# Altium integrated library ISSI SRAM Asynchronous SRAM 5V High-Speed.IntLib: 100 symbols (part 4 of 5)
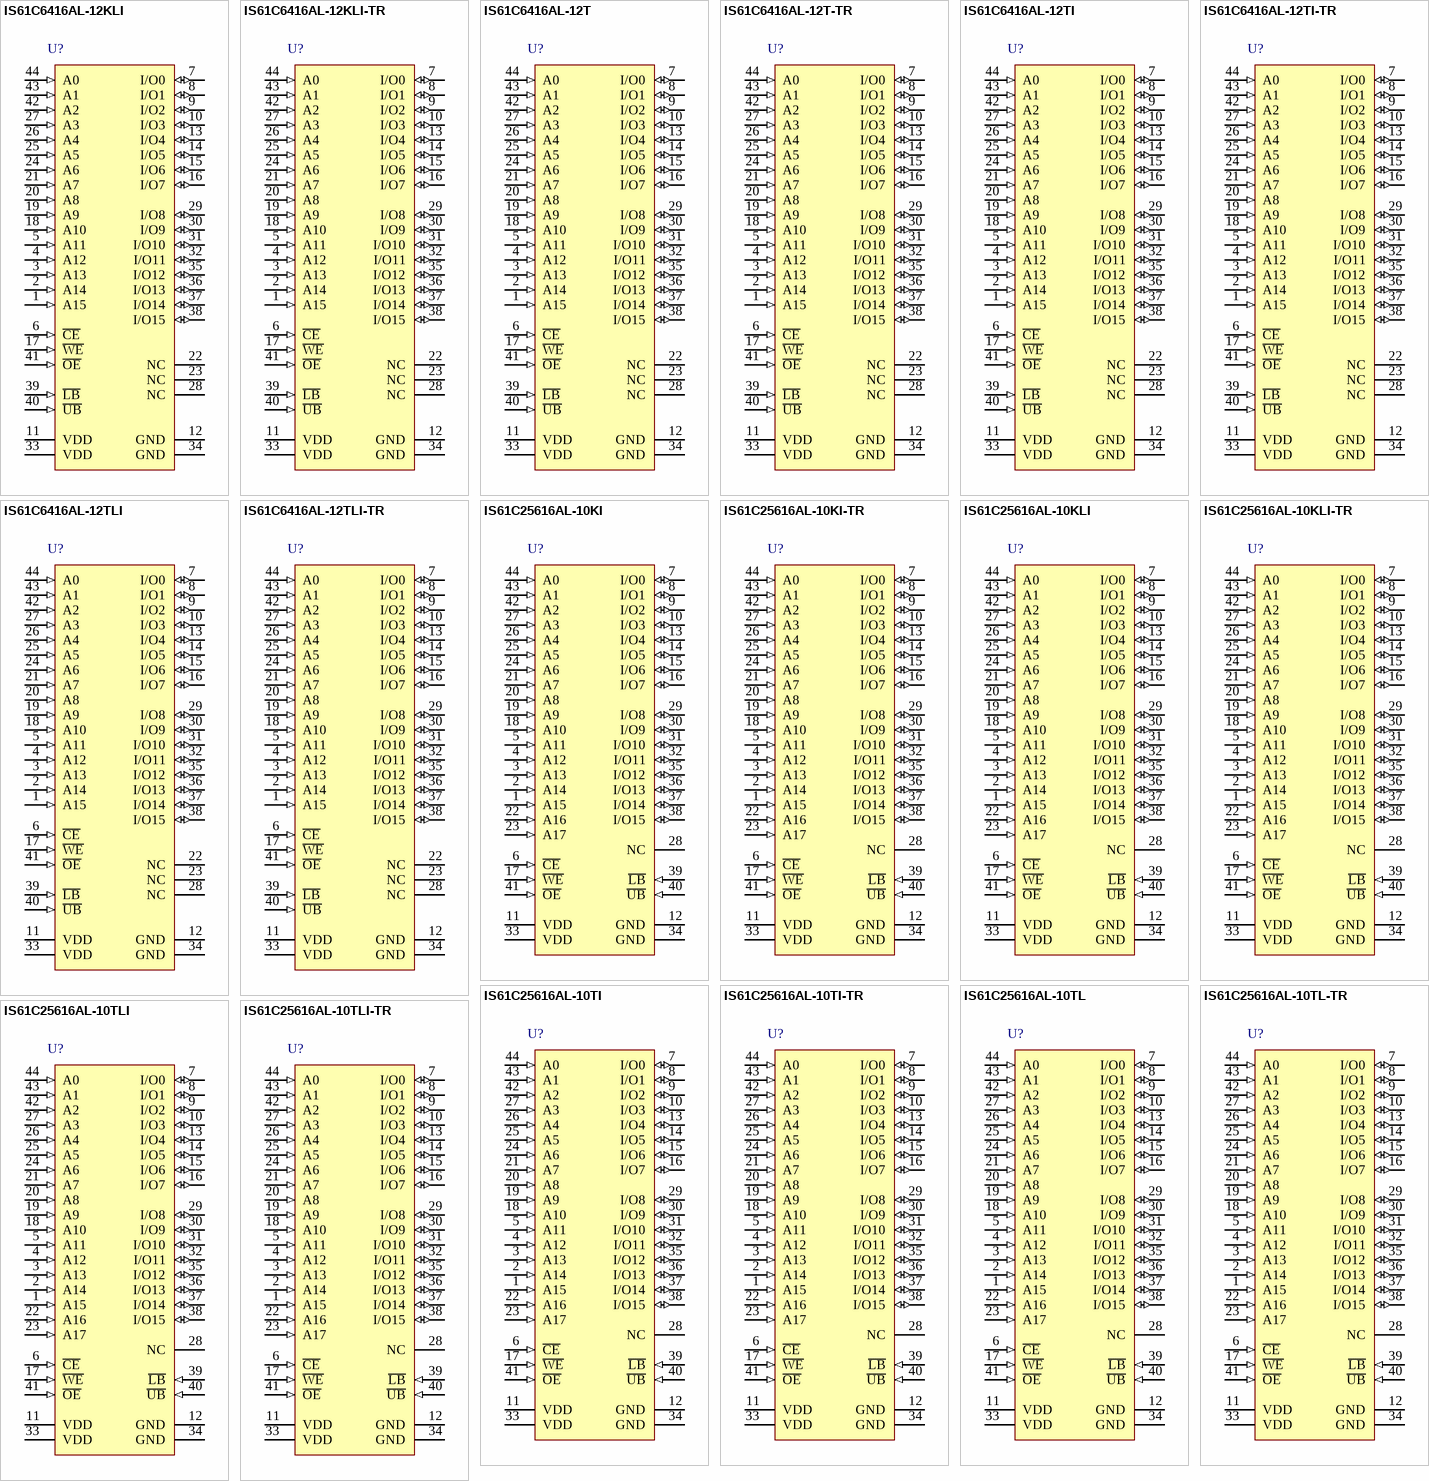
[diagram p8: symbols IS61C6416AL-12KLI to IS61C25616AL-10TLI-TR]

## IS61C6416AL-12KLI
designator U?
1 M High Speed CMOS SRAM, 64 K x 16, -40 to 85 degC, 44-Pin SOJ (SOJ-44), Pb-Free; Manufacturer: Integrated Silicon Solution Inc (ISSI); PartNumber: IS61C6416AL-12KLI; Density: 1M; Organization: 64K x 16; Packing: Tray / Tube; Speed (ns): 12; DatasheetVersion: Rev. B; PackageVersion: Rev. E, 12/2007; PackageReference: SOJ-44; PackageDescription: 44-Pin 400 mil SOJ, Body 28.58 x 10.16 mm, Pitch 1.27 mm; Supplier 1: Digi-Key; Supplier Part Number 1: 706-1088-5-ND; Supplier 2: Newark; Supplier Part Number 2: 43M5053; Supplier 3: Mouser; Supplier Part Number 3: 870IS61C6416AL12KLI; RoHS: Pb-Free; Mounting Technology: Surface Mount; Code_JEDEC: MS-027; ComponentLink1Description: Manufacturer URL; ComponentLink1URL: http://www.issi.com/US/index.shtml; ComponentLink2Description: Datasheet; ComponentLink2URL: http://www.issi.com/WW/pdf/61C6416AL.pdf; ComponentLink3Description: Package Specification; ComponentLink3URL: http://www.issi.com/WW/pdf/61-64WV25616.pdf
footprint ISSI-SOJ-44_N (SOJ, 44-Leads, Body 28.7x10.29mm, Pitch 1.27mm, IPC Medium Density)
pins: 1 A15 (in) "Address Input", 2 A14 (in) "Address Input", 3 A13 (in) "Address Input", 4 A12 (in) "Address Input", 5 A11 (in) "Address Input", 6 ~{CE} (in) "Chip Enable Input", 7 I/O0 (io) "Data Input/Output", 8 I/O1 (io) "Data Input/Output", 9 I/O2 (io) "Data Input/Output", 10 I/O3 (io) "Data Input/Output", 11 VDD (power) "Power", 12 GND (power) "Ground", 13 I/O4 (io) "Data Input/Output", 14 I/O5 (io) "Data Input/Output", 15 I/O6 (io) "Data Input/Output", 16 I/O7 (io) "Data Input/Output", 17 ~{WE} (in) "Write Enable Input", 18 A10 (in) "Address Input", 19 A9 (in) "Address Input", 20 A8 (in) "Address Input", 21 A7 (in) "Address Input", 22 NC "No Connection", 23 NC "No Connection", 24 A6 (in) "Address Input", 25 A5 (in) "Address Input", 26 A4 (in) "Address Input", 27 A3 (in) "Address Input", 28 NC "No Connection", 29 I/O8 (io) "Data Input/Output", 30 I/O9 (io) "Data Input/Output", 31 I/O10 (io) "Data Input/Output", 32 I/O11 (io) "Data Input/Output", 33 VDD (power) "Power", 34 GND (power) "Ground", 35 I/O12 (io) "Data Input/Output", 36 I/O13 (io) "Data Input/Output", 37 I/O14 (io) "Data Input/Output", 38 I/O15 (io) "Data Input/Output", 39 ~{LB} (in) "Lower-byte Control (I/O0-I/O7)", 40 ~{UB} (in) "Upper-byte Control (I/O8-I/O15)", 41 ~{OE} (in) "Output Enable Input", 42 A2 (in) "Address Input", 43 A1 (in) "Address Input", 44 A0 (in) "Address Input"

## IS61C6416AL-12KLI-TR
designator U?
1 M High Speed CMOS SRAM, 64 K x 16, -40 to 85 degC, 44-Pin SOJ (SOJ-44), Pb-Free; Manufacturer: Integrated Silicon Solution Inc (ISSI); PartNumber: IS61C6416AL-12KLI-TR; Density: 1M; Organization: 64K x 16; Packing: Tape & Reel; Speed (ns): 12; DatasheetVersion: Rev. B; PackageVersion: Rev. E, 12/2007; PackageReference: SOJ-44; PackageDescription: 44-Pin 400 mil SOJ, Body 28.58 x 10.16 mm, Pitch 1.27 mm; Supplier 1: Digi-Key; Supplier Part Number 1: IS61C6416AL-12KLI-TR-ND; Supplier 2: Mouser; Supplier Part Number 2: 870IS61C6416AL12KLIT; RoHS: Pb-Free; Mounting Technology: Surface Mount; Code_JEDEC: MS-027; ComponentLink1Description: Manufacturer URL; ComponentLink1URL: http://www.issi.com/US/index.shtml; ComponentLink2Description: Datasheet; ComponentLink2URL: http://www.issi.com/WW/pdf/61C6416AL.pdf; ComponentLink3Description: Package Specification; ComponentLink3URL: http://www.issi.com/WW/pdf/61-64WV25616.pdf
footprint ISSI-SOJ-44_N (SOJ, 44-Leads, Body 28.7x10.29mm, Pitch 1.27mm, IPC Medium Density)
pins: 1 A15 (in) "Address Input", 2 A14 (in) "Address Input", 3 A13 (in) "Address Input", 4 A12 (in) "Address Input", 5 A11 (in) "Address Input", 6 ~{CE} (in) "Chip Enable Input", 7 I/O0 (io) "Data Input/Output", 8 I/O1 (io) "Data Input/Output", 9 I/O2 (io) "Data Input/Output", 10 I/O3 (io) "Data Input/Output", 11 VDD (power) "Power", 12 GND (power) "Ground", 13 I/O4 (io) "Data Input/Output", 14 I/O5 (io) "Data Input/Output", 15 I/O6 (io) "Data Input/Output", 16 I/O7 (io) "Data Input/Output", 17 ~{WE} (in) "Write Enable Input", 18 A10 (in) "Address Input", 19 A9 (in) "Address Input", 20 A8 (in) "Address Input", 21 A7 (in) "Address Input", 22 NC "No Connection", 23 NC "No Connection", 24 A6 (in) "Address Input", 25 A5 (in) "Address Input", 26 A4 (in) "Address Input", 27 A3 (in) "Address Input", 28 NC "No Connection", 29 I/O8 (io) "Data Input/Output", 30 I/O9 (io) "Data Input/Output", 31 I/O10 (io) "Data Input/Output", 32 I/O11 (io) "Data Input/Output", 33 VDD (power) "Power", 34 GND (power) "Ground", 35 I/O12 (io) "Data Input/Output", 36 I/O13 (io) "Data Input/Output", 37 I/O14 (io) "Data Input/Output", 38 I/O15 (io) "Data Input/Output", 39 ~{LB} (in) "Lower-byte Control (I/O0-I/O7)", 40 ~{UB} (in) "Upper-byte Control (I/O8-I/O15)", 41 ~{OE} (in) "Output Enable Input", 42 A2 (in) "Address Input", 43 A1 (in) "Address Input", 44 A0 (in) "Address Input"

## IS61C6416AL-12T
designator U?
1 M High Speed CMOS SRAM, 64 K x 16, 0 to 70 degC, 44-Pin SOP (TSOP-2-44); Manufacturer: Integrated Silicon Solution Inc (ISSI); PartNumber: IS61C6416AL-12T; Density: 1M; Organization: 64K x 16; Packing: Tray / Tube; Speed (ns): 12; DatasheetVersion: Rev. B; PackageVersion: Rev. F, 06/2008; PackageReference: TSOP-2-44; PackageDescription: 44-Pin 400 mil TSOP-2, Body 18.41 x 10.16 mm, Pitch 0.8 mm; Mounting Technology: Surface Mount; ComponentLink1Description: Manufacturer URL; ComponentLink1URL: http://www.issi.com/US/index.shtml; ComponentLink2Description: Datasheet; ComponentLink2URL: http://www.issi.com/WW/pdf/61C6416AL.pdf; ComponentLink3Description: Package Specification; ComponentLink3URL: http://www.issi.com/WW/pdf/61-64WV6416EEBLL.pdf
footprint ISSI-TSOP-2-44_N (SOP, 44-Leads, Body 18.5x10.3mm, Pitch 0.8mm, IPC Medium Density)
pins: 1 A15 (in) "Address Input", 2 A14 (in) "Address Input", 3 A13 (in) "Address Input", 4 A12 (in) "Address Input", 5 A11 (in) "Address Input", 6 ~{CE} (in) "Chip Enable Input", 7 I/O0 (io) "Data Input/Output", 8 I/O1 (io) "Data Input/Output", 9 I/O2 (io) "Data Input/Output", 10 I/O3 (io) "Data Input/Output", 11 VDD (power) "Power", 12 GND (power) "Ground", 13 I/O4 (io) "Data Input/Output", 14 I/O5 (io) "Data Input/Output", 15 I/O6 (io) "Data Input/Output", 16 I/O7 (io) "Data Input/Output", 17 ~{WE} (in) "Write Enable Input", 18 A10 (in) "Address Input", 19 A9 (in) "Address Input", 20 A8 (in) "Address Input", 21 A7 (in) "Address Input", 22 NC "No Connection", 23 NC "No Connection", 24 A6 (in) "Address Input", 25 A5 (in) "Address Input", 26 A4 (in) "Address Input", 27 A3 (in) "Address Input", 28 NC "No Connection", 29 I/O8 (io) "Data Input/Output", 30 I/O9 (io) "Data Input/Output", 31 I/O10 (io) "Data Input/Output", 32 I/O11 (io) "Data Input/Output", 33 VDD (power) "Power", 34 GND (power) "Ground", 35 I/O12 (io) "Data Input/Output", 36 I/O13 (io) "Data Input/Output", 37 I/O14 (io) "Data Input/Output", 38 I/O15 (io) "Data Input/Output", 39 ~{LB} (in) "Lower-byte Control (I/O0-I/O7)", 40 ~{UB} (in) "Upper-byte Control (I/O8-I/O15)", 41 ~{OE} (in) "Output Enable Input", 42 A2 (in) "Address Input", 43 A1 (in) "Address Input", 44 A0 (in) "Address Input"

## IS61C6416AL-12T-TR
designator U?
1 M High Speed CMOS SRAM, 64 K x 16, 0 to 70 degC, 44-Pin SOP (TSOP-2-44); Manufacturer: Integrated Silicon Solution Inc (ISSI); PartNumber: IS61C6416AL-12T-TR; Density: 1M; Organization: 64K x 16; Packing: Tape & Reel; Speed (ns): 12; DatasheetVersion: Rev. B; PackageVersion: Rev. F, 06/2008; PackageReference: TSOP-2-44; PackageDescription: 44-Pin 400 mil TSOP-2, Body 18.41 x 10.16 mm, Pitch 0.8 mm; Mounting Technology: Surface Mount; ComponentLink1Description: Manufacturer URL; ComponentLink1URL: http://www.issi.com/US/index.shtml; ComponentLink2Description: Datasheet; ComponentLink2URL: http://www.issi.com/WW/pdf/61C6416AL.pdf; ComponentLink3Description: Package Specification; ComponentLink3URL: http://www.issi.com/WW/pdf/61-64WV6416EEBLL.pdf
footprint ISSI-TSOP-2-44_N (SOP, 44-Leads, Body 18.5x10.3mm, Pitch 0.8mm, IPC Medium Density)
pins: 1 A15 (in) "Address Input", 2 A14 (in) "Address Input", 3 A13 (in) "Address Input", 4 A12 (in) "Address Input", 5 A11 (in) "Address Input", 6 ~{CE} (in) "Chip Enable Input", 7 I/O0 (io) "Data Input/Output", 8 I/O1 (io) "Data Input/Output", 9 I/O2 (io) "Data Input/Output", 10 I/O3 (io) "Data Input/Output", 11 VDD (power) "Power", 12 GND (power) "Ground", 13 I/O4 (io) "Data Input/Output", 14 I/O5 (io) "Data Input/Output", 15 I/O6 (io) "Data Input/Output", 16 I/O7 (io) "Data Input/Output", 17 ~{WE} (in) "Write Enable Input", 18 A10 (in) "Address Input", 19 A9 (in) "Address Input", 20 A8 (in) "Address Input", 21 A7 (in) "Address Input", 22 NC "No Connection", 23 NC "No Connection", 24 A6 (in) "Address Input", 25 A5 (in) "Address Input", 26 A4 (in) "Address Input", 27 A3 (in) "Address Input", 28 NC "No Connection", 29 I/O8 (io) "Data Input/Output", 30 I/O9 (io) "Data Input/Output", 31 I/O10 (io) "Data Input/Output", 32 I/O11 (io) "Data Input/Output", 33 VDD (power) "Power", 34 GND (power) "Ground", 35 I/O12 (io) "Data Input/Output", 36 I/O13 (io) "Data Input/Output", 37 I/O14 (io) "Data Input/Output", 38 I/O15 (io) "Data Input/Output", 39 ~{LB} (in) "Lower-byte Control (I/O0-I/O7)", 40 ~{UB} (in) "Upper-byte Control (I/O8-I/O15)", 41 ~{OE} (in) "Output Enable Input", 42 A2 (in) "Address Input", 43 A1 (in) "Address Input", 44 A0 (in) "Address Input"

## IS61C6416AL-12TI
designator U?
1 M High Speed CMOS SRAM, 64 K x 16, -40 to 85 degC, 44-Pin SOP (TSOP-2-44); Manufacturer: Integrated Silicon Solution Inc (ISSI); PartNumber: IS61C6416AL-12TI; Density: 1M; Organization: 64K x 16; Packing: Tray / Tube; Speed (ns): 12; DatasheetVersion: Rev. B; PackageVersion: Rev. F, 06/2008; PackageReference: TSOP-2-44; PackageDescription: 44-Pin 400 mil TSOP-2, Body 18.41 x 10.16 mm, Pitch 0.8 mm; Supplier 1: Digi-Key; Supplier Part Number 1: IS61C6416AL-12TI-ND; Supplier 2: Mouser; Supplier Part Number 2: 870-IS61C6416AL-12TI; Mounting Technology: Surface Mount; ComponentLink1Description: Manufacturer URL; ComponentLink1URL: http://www.issi.com/US/index.shtml; ComponentLink2Description: Datasheet; ComponentLink2URL: http://www.issi.com/WW/pdf/61C6416AL.pdf; ComponentLink3Description: Package Specification; ComponentLink3URL: http://www.issi.com/WW/pdf/61-64WV6416EEBLL.pdf
footprint ISSI-TSOP-2-44_N (SOP, 44-Leads, Body 18.5x10.3mm, Pitch 0.8mm, IPC Medium Density)
pins: 1 A15 (in) "Address Input", 2 A14 (in) "Address Input", 3 A13 (in) "Address Input", 4 A12 (in) "Address Input", 5 A11 (in) "Address Input", 6 ~{CE} (in) "Chip Enable Input", 7 I/O0 (io) "Data Input/Output", 8 I/O1 (io) "Data Input/Output", 9 I/O2 (io) "Data Input/Output", 10 I/O3 (io) "Data Input/Output", 11 VDD (power) "Power", 12 GND (power) "Ground", 13 I/O4 (io) "Data Input/Output", 14 I/O5 (io) "Data Input/Output", 15 I/O6 (io) "Data Input/Output", 16 I/O7 (io) "Data Input/Output", 17 ~{WE} (in) "Write Enable Input", 18 A10 (in) "Address Input", 19 A9 (in) "Address Input", 20 A8 (in) "Address Input", 21 A7 (in) "Address Input", 22 NC "No Connection", 23 NC "No Connection", 24 A6 (in) "Address Input", 25 A5 (in) "Address Input", 26 A4 (in) "Address Input", 27 A3 (in) "Address Input", 28 NC "No Connection", 29 I/O8 (io) "Data Input/Output", 30 I/O9 (io) "Data Input/Output", 31 I/O10 (io) "Data Input/Output", 32 I/O11 (io) "Data Input/Output", 33 VDD (power) "Power", 34 GND (power) "Ground", 35 I/O12 (io) "Data Input/Output", 36 I/O13 (io) "Data Input/Output", 37 I/O14 (io) "Data Input/Output", 38 I/O15 (io) "Data Input/Output", 39 ~{LB} (in) "Lower-byte Control (I/O0-I/O7)", 40 ~{UB} (in) "Upper-byte Control (I/O8-I/O15)", 41 ~{OE} (in) "Output Enable Input", 42 A2 (in) "Address Input", 43 A1 (in) "Address Input", 44 A0 (in) "Address Input"

## IS61C6416AL-12TI-TR
designator U?
1 M High Speed CMOS SRAM, 64 K x 16, -40 to 85 degC, 44-Pin SOP (TSOP-2-44); Manufacturer: Integrated Silicon Solution Inc (ISSI); PartNumber: IS61C6416AL-12TI-TR; Density: 1M; Organization: 64K x 16; Packing: Tape & Reel; Speed (ns): 12; DatasheetVersion: Rev. B; PackageVersion: Rev. F, 06/2008; PackageReference: TSOP-2-44; PackageDescription: 44-Pin 400 mil TSOP-2, Body 18.41 x 10.16 mm, Pitch 0.8 mm; Supplier 1: Digi-Key; Supplier Part Number 1: IS61C6416AL-12TI-TR-ND; Supplier 2: Mouser; Supplier Part Number 2: 870IS61C6416AL12TITR; Mounting Technology: Surface Mount; ComponentLink1Description: Manufacturer URL; ComponentLink1URL: http://www.issi.com/US/index.shtml; ComponentLink2Description: Datasheet; ComponentLink2URL: http://www.issi.com/WW/pdf/61C6416AL.pdf; ComponentLink3Description: Package Specification; ComponentLink3URL: http://www.issi.com/WW/pdf/61-64WV6416EEBLL.pdf
footprint ISSI-TSOP-2-44_N (SOP, 44-Leads, Body 18.5x10.3mm, Pitch 0.8mm, IPC Medium Density)
pins: 1 A15 (in) "Address Input", 2 A14 (in) "Address Input", 3 A13 (in) "Address Input", 4 A12 (in) "Address Input", 5 A11 (in) "Address Input", 6 ~{CE} (in) "Chip Enable Input", 7 I/O0 (io) "Data Input/Output", 8 I/O1 (io) "Data Input/Output", 9 I/O2 (io) "Data Input/Output", 10 I/O3 (io) "Data Input/Output", 11 VDD (power) "Power", 12 GND (power) "Ground", 13 I/O4 (io) "Data Input/Output", 14 I/O5 (io) "Data Input/Output", 15 I/O6 (io) "Data Input/Output", 16 I/O7 (io) "Data Input/Output", 17 ~{WE} (in) "Write Enable Input", 18 A10 (in) "Address Input", 19 A9 (in) "Address Input", 20 A8 (in) "Address Input", 21 A7 (in) "Address Input", 22 NC "No Connection", 23 NC "No Connection", 24 A6 (in) "Address Input", 25 A5 (in) "Address Input", 26 A4 (in) "Address Input", 27 A3 (in) "Address Input", 28 NC "No Connection", 29 I/O8 (io) "Data Input/Output", 30 I/O9 (io) "Data Input/Output", 31 I/O10 (io) "Data Input/Output", 32 I/O11 (io) "Data Input/Output", 33 VDD (power) "Power", 34 GND (power) "Ground", 35 I/O12 (io) "Data Input/Output", 36 I/O13 (io) "Data Input/Output", 37 I/O14 (io) "Data Input/Output", 38 I/O15 (io) "Data Input/Output", 39 ~{LB} (in) "Lower-byte Control (I/O0-I/O7)", 40 ~{UB} (in) "Upper-byte Control (I/O8-I/O15)", 41 ~{OE} (in) "Output Enable Input", 42 A2 (in) "Address Input", 43 A1 (in) "Address Input", 44 A0 (in) "Address Input"

## IS61C6416AL-12TLI
designator U?
1 M High Speed CMOS SRAM, 64 K x 16, -40 to 85 degC, 44-Pin SOP (TSOP-2-44), Pb-Free; Manufacturer: Integrated Silicon Solution Inc (ISSI); PartNumber: IS61C6416AL-12TLI; Density: 1M; Organization: 64K x 16; Packing: Tray / Tube; Speed (ns): 12; DatasheetVersion: Rev. B; PackageVersion: Rev. F, 06/2008; PackageReference: TSOP-2-44; PackageDescription: 44-Pin 400 mil TSOP-2, Body 18.41 x 10.16 mm, Pitch 0.8 mm; Supplier 1: Digi-Key; Supplier Part Number 1: 706-1089-ND; Supplier 2: Newark; Supplier Part Number 2: 43M5057; Supplier 3: Mouser; Supplier Part Number 3: 870IS61C6416AL12TLI; RoHS: Pb-Free; Mounting Technology: Surface Mount; ComponentLink1Description: Manufacturer URL; ComponentLink1URL: http://www.issi.com/US/index.shtml; ComponentLink2Description: Datasheet; ComponentLink2URL: http://www.issi.com/WW/pdf/61C6416AL.pdf; ComponentLink3Description: Package Specification; ComponentLink3URL: http://www.issi.com/WW/pdf/61-64WV6416EEBLL.pdf
footprint ISSI-TSOP-2-44_N (SOP, 44-Leads, Body 18.5x10.3mm, Pitch 0.8mm, IPC Medium Density)
pins: 1 A15 (in) "Address Input", 2 A14 (in) "Address Input", 3 A13 (in) "Address Input", 4 A12 (in) "Address Input", 5 A11 (in) "Address Input", 6 ~{CE} (in) "Chip Enable Input", 7 I/O0 (io) "Data Input/Output", 8 I/O1 (io) "Data Input/Output", 9 I/O2 (io) "Data Input/Output", 10 I/O3 (io) "Data Input/Output", 11 VDD (power) "Power", 12 GND (power) "Ground", 13 I/O4 (io) "Data Input/Output", 14 I/O5 (io) "Data Input/Output", 15 I/O6 (io) "Data Input/Output", 16 I/O7 (io) "Data Input/Output", 17 ~{WE} (in) "Write Enable Input", 18 A10 (in) "Address Input", 19 A9 (in) "Address Input", 20 A8 (in) "Address Input", 21 A7 (in) "Address Input", 22 NC "No Connection", 23 NC "No Connection", 24 A6 (in) "Address Input", 25 A5 (in) "Address Input", 26 A4 (in) "Address Input", 27 A3 (in) "Address Input", 28 NC "No Connection", 29 I/O8 (io) "Data Input/Output", 30 I/O9 (io) "Data Input/Output", 31 I/O10 (io) "Data Input/Output", 32 I/O11 (io) "Data Input/Output", 33 VDD (power) "Power", 34 GND (power) "Ground", 35 I/O12 (io) "Data Input/Output", 36 I/O13 (io) "Data Input/Output", 37 I/O14 (io) "Data Input/Output", 38 I/O15 (io) "Data Input/Output", 39 ~{LB} (in) "Lower-byte Control (I/O0-I/O7)", 40 ~{UB} (in) "Upper-byte Control (I/O8-I/O15)", 41 ~{OE} (in) "Output Enable Input", 42 A2 (in) "Address Input", 43 A1 (in) "Address Input", 44 A0 (in) "Address Input"

## IS61C6416AL-12TLI-TR
designator U?
1 M High Speed CMOS SRAM, 64 K x 16, -40 to 85 degC, 44-Pin SOP (TSOP-2-44), Pb-Free; Manufacturer: Integrated Silicon Solution Inc (ISSI); PartNumber: IS61C6416AL-12TLI-TR; Density: 1M; Organization: 64K x 16; Packing: Tape & Reel; Speed (ns): 12; DatasheetVersion: Rev. B; PackageVersion: Rev. F, 06/2008; PackageReference: TSOP-2-44; PackageDescription: 44-Pin 400 mil TSOP-2, Body 18.41 x 10.16 mm, Pitch 0.8 mm; Supplier 1: Digi-Key; Supplier Part Number 1: IS61C6416AL-12TLI-TR-ND; Supplier 2: Mouser; Supplier Part Number 2: 870IS61C6416AL12TLIT; RoHS: Pb-Free; Mounting Technology: Surface Mount; ComponentLink1Description: Manufacturer URL; ComponentLink1URL: http://www.issi.com/US/index.shtml; ComponentLink2Description: Datasheet; ComponentLink2URL: http://www.issi.com/WW/pdf/61C6416AL.pdf; ComponentLink3Description: Package Specification; ComponentLink3URL: http://www.issi.com/WW/pdf/61-64WV6416EEBLL.pdf
footprint ISSI-TSOP-2-44_N (SOP, 44-Leads, Body 18.5x10.3mm, Pitch 0.8mm, IPC Medium Density)
pins: 1 A15 (in) "Address Input", 2 A14 (in) "Address Input", 3 A13 (in) "Address Input", 4 A12 (in) "Address Input", 5 A11 (in) "Address Input", 6 ~{CE} (in) "Chip Enable Input", 7 I/O0 (io) "Data Input/Output", 8 I/O1 (io) "Data Input/Output", 9 I/O2 (io) "Data Input/Output", 10 I/O3 (io) "Data Input/Output", 11 VDD (power) "Power", 12 GND (power) "Ground", 13 I/O4 (io) "Data Input/Output", 14 I/O5 (io) "Data Input/Output", 15 I/O6 (io) "Data Input/Output", 16 I/O7 (io) "Data Input/Output", 17 ~{WE} (in) "Write Enable Input", 18 A10 (in) "Address Input", 19 A9 (in) "Address Input", 20 A8 (in) "Address Input", 21 A7 (in) "Address Input", 22 NC "No Connection", 23 NC "No Connection", 24 A6 (in) "Address Input", 25 A5 (in) "Address Input", 26 A4 (in) "Address Input", 27 A3 (in) "Address Input", 28 NC "No Connection", 29 I/O8 (io) "Data Input/Output", 30 I/O9 (io) "Data Input/Output", 31 I/O10 (io) "Data Input/Output", 32 I/O11 (io) "Data Input/Output", 33 VDD (power) "Power", 34 GND (power) "Ground", 35 I/O12 (io) "Data Input/Output", 36 I/O13 (io) "Data Input/Output", 37 I/O14 (io) "Data Input/Output", 38 I/O15 (io) "Data Input/Output", 39 ~{LB} (in) "Lower-byte Control (I/O0-I/O7)", 40 ~{UB} (in) "Upper-byte Control (I/O8-I/O15)", 41 ~{OE} (in) "Output Enable Input", 42 A2 (in) "Address Input", 43 A1 (in) "Address Input", 44 A0 (in) "Address Input"

## IS61C25616AL-10KI
designator U?
4 M High Speed CMOS SRAM, 256 K x 16, -40 to 85 degC, 44-Pin SOJ (SOJ-44); Manufacturer: Integrated Silicon Solution Inc (ISSI); PartNumber: IS61C25616AL-10KI; Density: 4M; Packing: Tray / Tube; Speed (ns): 10; DatasheetVersion: Rev. C; PackageVersion: Rev. E, 12/2007; PackageReference: SOJ-44; PackageDescription: 44-Pin 400 mil SOJ, Body 28.58 x 10.16 mm, Pitch 1.27 mm; Organization: 256K x 16; Mounting Technology: Surface Mount; Code_JEDEC: MS-027; ComponentLink1Description: Manufacturer URL; ComponentLink1URL: http://www.issi.com/US/index.shtml; ComponentLink2Description: Datasheet; ComponentLink2URL: http://www.issi.com/WW/pdf/61-64C25616AL-AS.pdf; ComponentLink3Description: Package Specification; ComponentLink3URL: http://www.issi.com/WW/pdf/61-64WV25616.pdf
footprint ISSI-SOJ-44_N (SOJ, 44-Leads, Body 28.7x10.29mm, Pitch 1.27mm, IPC Medium Density)
pins: 1 A15 (in) "Address Input", 2 A14 (in) "Address Input", 3 A13 (in) "Address Input", 4 A12 (in) "Address Input", 5 A11 (in) "Address Input", 6 ~{CE} (in) "Chip Enable Input", 7 I/O0 (io) "Data Input/Output", 8 I/O1 (io) "Data Input/Output", 9 I/O2 (io) "Data Input/Output", 10 I/O3 (io) "Data Input/Output", 11 VDD (power) "Power", 12 GND (power) "Ground", 13 I/O4 (io) "Data Input/Output", 14 I/O5 (io) "Data Input/Output", 15 I/O6 (io) "Data Input/Output", 16 I/O7 (io) "Data Input/Output", 17 ~{WE} (in) "Write Enable Input", 18 A10 (in) "Address Input", 19 A9 (in) "Address Input", 20 A8 (in) "Address Input", 21 A7 (in) "Address Input", 22 A16 (in) "Address Input", 23 A17 (in) "Address Input", 24 A6 (in) "Address Input", 25 A5 (in) "Address Input", 26 A4 (in) "Address Input", 27 A3 (in) "Address Input", 28 NC "No Connection", 29 I/O8 (io) "Data Input/Output", 30 I/O9 (io) "Data Input/Output", 31 I/O10 (io) "Data Input/Output", 32 I/O11 (io) "Data Input/Output", 33 VDD (power) "Power", 34 GND (power) "Ground", 35 I/O12 (io) "Data Input/Output", 36 I/O13 (io) "Data Input/Output", 37 I/O14 (io) "Data Input/Output", 38 I/O15 (io) "Data Input/Output", 39 ~{LB} (in) "Lower-byte Control (I/O0-I/O7)", 40 ~{UB} (in) "Upper-byte Control (I/O8-I/O15)", 41 ~{OE} (in) "Output Enable Input", 42 A2 (in) "Address Input", 43 A1 (in) "Address Input", 44 A0 (in) "Address Input"

## IS61C25616AL-10KI-TR
designator U?
4 M High Speed CMOS SRAM, 256 K x 16, -40 to 85 degC, 44-Pin SOJ (SOJ-44); Manufacturer: Integrated Silicon Solution Inc (ISSI); PartNumber: IS61C25616AL-10KI-TR; Density: 4M; Packing: Tape & Reel; Speed (ns): 10; DatasheetVersion: Rev. C; PackageVersion: Rev. E, 12/2007; PackageReference: SOJ-44; PackageDescription: 44-Pin 400 mil SOJ, Body 28.58 x 10.16 mm, Pitch 1.27 mm; Organization: 256K x 16; Mounting Technology: Surface Mount; Code_JEDEC: MS-027; ComponentLink1Description: Manufacturer URL; ComponentLink1URL: http://www.issi.com/US/index.shtml; ComponentLink2Description: Datasheet; ComponentLink2URL: http://www.issi.com/WW/pdf/61-64C25616AL-AS.pdf; ComponentLink3Description: Package Specification; ComponentLink3URL: http://www.issi.com/WW/pdf/61-64WV25616.pdf
footprint ISSI-SOJ-44_N (SOJ, 44-Leads, Body 28.7x10.29mm, Pitch 1.27mm, IPC Medium Density)
pins: 1 A15 (in) "Address Input", 2 A14 (in) "Address Input", 3 A13 (in) "Address Input", 4 A12 (in) "Address Input", 5 A11 (in) "Address Input", 6 ~{CE} (in) "Chip Enable Input", 7 I/O0 (io) "Data Input/Output", 8 I/O1 (io) "Data Input/Output", 9 I/O2 (io) "Data Input/Output", 10 I/O3 (io) "Data Input/Output", 11 VDD (power) "Power", 12 GND (power) "Ground", 13 I/O4 (io) "Data Input/Output", 14 I/O5 (io) "Data Input/Output", 15 I/O6 (io) "Data Input/Output", 16 I/O7 (io) "Data Input/Output", 17 ~{WE} (in) "Write Enable Input", 18 A10 (in) "Address Input", 19 A9 (in) "Address Input", 20 A8 (in) "Address Input", 21 A7 (in) "Address Input", 22 A16 (in) "Address Input", 23 A17 (in) "Address Input", 24 A6 (in) "Address Input", 25 A5 (in) "Address Input", 26 A4 (in) "Address Input", 27 A3 (in) "Address Input", 28 NC "No Connection", 29 I/O8 (io) "Data Input/Output", 30 I/O9 (io) "Data Input/Output", 31 I/O10 (io) "Data Input/Output", 32 I/O11 (io) "Data Input/Output", 33 VDD (power) "Power", 34 GND (power) "Ground", 35 I/O12 (io) "Data Input/Output", 36 I/O13 (io) "Data Input/Output", 37 I/O14 (io) "Data Input/Output", 38 I/O15 (io) "Data Input/Output", 39 ~{LB} (in) "Lower-byte Control (I/O0-I/O7)", 40 ~{UB} (in) "Upper-byte Control (I/O8-I/O15)", 41 ~{OE} (in) "Output Enable Input", 42 A2 (in) "Address Input", 43 A1 (in) "Address Input", 44 A0 (in) "Address Input"

## IS61C25616AL-10KLI
designator U?
4 M High Speed CMOS SRAM, 256 K x 16, -40 to 85 degC, 44-Pin SOJ (SOJ-44), Pb-Free; Manufacturer: Integrated Silicon Solution Inc (ISSI); PartNumber: IS61C25616AL-10KLI; Density: 4M; Packing: Tray / Tube; Speed (ns): 10; DatasheetVersion: Rev. C; PackageVersion: Rev. E, 12/2007; PackageReference: SOJ-44; PackageDescription: 44-Pin 400 mil SOJ, Body 28.58 x 10.16 mm, Pitch 1.27 mm; Supplier 1: Digi-Key; Supplier Part Number 1: IS61C25616AL-10KLI-ND; Supplier 2: Newark; Supplier Part Number 2: 55M7792; Supplier 3: Mouser; Supplier Part Number 3: 870-61C25616AL-10KLI; Organization: 256K x 16; RoHS: Pb-Free; Mounting Technology: Surface Mount; Code_JEDEC: MS-027; ComponentLink1Description: Manufacturer URL; ComponentLink1URL: http://www.issi.com/US/index.shtml; ComponentLink2Description: Datasheet; ComponentLink2URL: http://www.issi.com/WW/pdf/61-64C25616AL-AS.pdf; ComponentLink3Description: Package Specification; ComponentLink3URL: http://www.issi.com/WW/pdf/61-64WV25616.pdf
footprint ISSI-SOJ-44_N (SOJ, 44-Leads, Body 28.7x10.29mm, Pitch 1.27mm, IPC Medium Density)
pins: 1 A15 (in) "Address Input", 2 A14 (in) "Address Input", 3 A13 (in) "Address Input", 4 A12 (in) "Address Input", 5 A11 (in) "Address Input", 6 ~{CE} (in) "Chip Enable Input", 7 I/O0 (io) "Data Input/Output", 8 I/O1 (io) "Data Input/Output", 9 I/O2 (io) "Data Input/Output", 10 I/O3 (io) "Data Input/Output", 11 VDD (power) "Power", 12 GND (power) "Ground", 13 I/O4 (io) "Data Input/Output", 14 I/O5 (io) "Data Input/Output", 15 I/O6 (io) "Data Input/Output", 16 I/O7 (io) "Data Input/Output", 17 ~{WE} (in) "Write Enable Input", 18 A10 (in) "Address Input", 19 A9 (in) "Address Input", 20 A8 (in) "Address Input", 21 A7 (in) "Address Input", 22 A16 (in) "Address Input", 23 A17 (in) "Address Input", 24 A6 (in) "Address Input", 25 A5 (in) "Address Input", 26 A4 (in) "Address Input", 27 A3 (in) "Address Input", 28 NC "No Connection", 29 I/O8 (io) "Data Input/Output", 30 I/O9 (io) "Data Input/Output", 31 I/O10 (io) "Data Input/Output", 32 I/O11 (io) "Data Input/Output", 33 VDD (power) "Power", 34 GND (power) "Ground", 35 I/O12 (io) "Data Input/Output", 36 I/O13 (io) "Data Input/Output", 37 I/O14 (io) "Data Input/Output", 38 I/O15 (io) "Data Input/Output", 39 ~{LB} (in) "Lower-byte Control (I/O0-I/O7)", 40 ~{UB} (in) "Upper-byte Control (I/O8-I/O15)", 41 ~{OE} (in) "Output Enable Input", 42 A2 (in) "Address Input", 43 A1 (in) "Address Input", 44 A0 (in) "Address Input"

## IS61C25616AL-10KLI-TR
designator U?
4 M High Speed CMOS SRAM, 256 K x 16, -40 to 85 degC, 44-Pin SOJ (SOJ-44), Pb-Free; Manufacturer: Integrated Silicon Solution Inc (ISSI); PartNumber: IS61C25616AL-10KLI-TR; Density: 4M; Packing: Tape & Reel; Speed (ns): 10; DatasheetVersion: Rev. C; PackageVersion: Rev. E, 12/2007; PackageReference: SOJ-44; PackageDescription: 44-Pin 400 mil SOJ, Body 28.58 x 10.16 mm, Pitch 1.27 mm; Supplier 1: Digi-Key; Supplier Part Number 1: IS61C25616AL-10KLI-TR-ND; Supplier 2: Mouser; Supplier Part Number 2: 870-61C25616AL10KLIT; Organization: 256K x 16; RoHS: Pb-Free; Mounting Technology: Surface Mount; Code_JEDEC: MS-027; ComponentLink1Description: Manufacturer URL; ComponentLink1URL: http://www.issi.com/US/index.shtml; ComponentLink2Description: Datasheet; ComponentLink2URL: http://www.issi.com/WW/pdf/61-64C25616AL-AS.pdf; ComponentLink3Description: Package Specification; ComponentLink3URL: http://www.issi.com/WW/pdf/61-64WV25616.pdf
footprint ISSI-SOJ-44_N (SOJ, 44-Leads, Body 28.7x10.29mm, Pitch 1.27mm, IPC Medium Density)
pins: 1 A15 (in) "Address Input", 2 A14 (in) "Address Input", 3 A13 (in) "Address Input", 4 A12 (in) "Address Input", 5 A11 (in) "Address Input", 6 ~{CE} (in) "Chip Enable Input", 7 I/O0 (io) "Data Input/Output", 8 I/O1 (io) "Data Input/Output", 9 I/O2 (io) "Data Input/Output", 10 I/O3 (io) "Data Input/Output", 11 VDD (power) "Power", 12 GND (power) "Ground", 13 I/O4 (io) "Data Input/Output", 14 I/O5 (io) "Data Input/Output", 15 I/O6 (io) "Data Input/Output", 16 I/O7 (io) "Data Input/Output", 17 ~{WE} (in) "Write Enable Input", 18 A10 (in) "Address Input", 19 A9 (in) "Address Input", 20 A8 (in) "Address Input", 21 A7 (in) "Address Input", 22 A16 (in) "Address Input", 23 A17 (in) "Address Input", 24 A6 (in) "Address Input", 25 A5 (in) "Address Input", 26 A4 (in) "Address Input", 27 A3 (in) "Address Input", 28 NC "No Connection", 29 I/O8 (io) "Data Input/Output", 30 I/O9 (io) "Data Input/Output", 31 I/O10 (io) "Data Input/Output", 32 I/O11 (io) "Data Input/Output", 33 VDD (power) "Power", 34 GND (power) "Ground", 35 I/O12 (io) "Data Input/Output", 36 I/O13 (io) "Data Input/Output", 37 I/O14 (io) "Data Input/Output", 38 I/O15 (io) "Data Input/Output", 39 ~{LB} (in) "Lower-byte Control (I/O0-I/O7)", 40 ~{UB} (in) "Upper-byte Control (I/O8-I/O15)", 41 ~{OE} (in) "Output Enable Input", 42 A2 (in) "Address Input", 43 A1 (in) "Address Input", 44 A0 (in) "Address Input"

## IS61C25616AL-10TI
designator U?
4 M High Speed CMOS SRAM, 256 K x 16, -40 to 85 degC, 44-Pin SOP (TSOP-2-44); Manufacturer: Integrated Silicon Solution Inc (ISSI); PartNumber: IS61C25616AL-10TI; Density: 4M; Packing: Tray / Tube; Speed (ns): 10; DatasheetVersion: Rev. C; PackageVersion: Rev. F, 06/2008; PackageReference: TSOP-2-44; PackageDescription: 44-Pin 400 mil TSOP-2, Body 18.41 x 10.16 mm, Pitch 0.8 mm; Organization: 256K x 16; Mounting Technology: Surface Mount; ComponentLink1Description: Manufacturer URL; ComponentLink1URL: http://www.issi.com/US/index.shtml; ComponentLink2Description: Datasheet; ComponentLink2URL: http://www.issi.com/WW/pdf/61-64C25616AL-AS.pdf; ComponentLink3Description: Package Specification; ComponentLink3URL: http://www.issi.com/WW/pdf/61-64WV6416EEBLL.pdf
footprint ISSI-TSOP-2-44_N (SOP, 44-Leads, Body 18.5x10.3mm, Pitch 0.8mm, IPC Medium Density)
pins: 1 A15 (in) "Address Inputs", 2 A14 (in) "Address Inputs", 3 A13 (in) "Address Inputs", 4 A12 (in) "Address Inputs", 5 A11 (in) "Address Inputs", 6 ~{CE} (in) "Chip Enable Input", 7 I/O0 (io) "Data Inputs/Outputs", 8 I/O1 (io) "Data Inputs/Outputs", 9 I/O2 (io) "Data Inputs/Outputs", 10 I/O3 (io) "Data Inputs/Outputs", 11 VDD (power) "Power", 12 GND (power) "Ground", 13 I/O4 (io) "Data Inputs/Outputs", 14 I/O5 (io) "Data Inputs/Outputs", 15 I/O6 (io) "Data Inputs/Outputs", 16 I/O7 (io) "Data Inputs/Outputs", 17 ~{WE} (in) "Write Enable Input", 18 A10 (in) "Address Inputs", 19 A9 (in) "Address Inputs", 20 A8 (in) "Address Inputs", 21 A7 (in) "Address Inputs", 22 A16 (in) "Address Inputs", 23 A17 (in) "Address Inputs", 24 A6 (in) "Address Inputs", 25 A5 (in) "Address Inputs", 26 A4 (in) "Address Inputs", 27 A3 (in) "Address Inputs", 28 NC "No Connection", 29 I/O8 (io) "Data Inputs/Outputs", 30 I/O9 (io) "Data Inputs/Outputs", 31 I/O10 (io) "Data Inputs/Outputs", 32 I/O11 (io) "Data Inputs/Outputs", 33 VDD (power) "Power", 34 GND (power) "Ground", 35 I/O12 (io) "Data Inputs/Outputs", 36 I/O13 (io) "Data Inputs/Outputs", 37 I/O14 (io) "Data Inputs/Outputs", 38 I/O15 (io) "Data Inputs/Outputs", 39 ~{LB} (in) "Lower-byte Control (I/O0-I/O7)", 40 ~{UB} (in) "Upper-byte Control (I/O8-I/O15)", 41 ~{OE} (in) "Output Enable Input", 42 A2 (in) "Address Inputs", 43 A1 (in) "Address Inputs", 44 A0 (in) "Address Inputs"

## IS61C25616AL-10TI-TR
designator U?
4 M High Speed CMOS SRAM, 256 K x 16, -40 to 85 degC, 44-Pin SOP (TSOP-2-44); Manufacturer: Integrated Silicon Solution Inc (ISSI); PartNumber: IS61C25616AL-10TI-TR; Density: 4M; Packing: Tape & Reel; Speed (ns): 10; DatasheetVersion: Rev. C; PackageVersion: Rev. F, 06/2008; PackageReference: TSOP-2-44; PackageDescription: 44-Pin 400 mil TSOP-2, Body 18.41 x 10.16 mm, Pitch 0.8 mm; Organization: 256K x 16; Mounting Technology: Surface Mount; ComponentLink1Description: Manufacturer URL; ComponentLink1URL: http://www.issi.com/US/index.shtml; ComponentLink2Description: Datasheet; ComponentLink2URL: http://www.issi.com/WW/pdf/61-64C25616AL-AS.pdf; ComponentLink3Description: Package Specification; ComponentLink3URL: http://www.issi.com/WW/pdf/61-64WV6416EEBLL.pdf
footprint ISSI-TSOP-2-44_N (SOP, 44-Leads, Body 18.5x10.3mm, Pitch 0.8mm, IPC Medium Density)
pins: 1 A15 (in) "Address Inputs", 2 A14 (in) "Address Inputs", 3 A13 (in) "Address Inputs", 4 A12 (in) "Address Inputs", 5 A11 (in) "Address Inputs", 6 ~{CE} (in) "Chip Enable Input", 7 I/O0 (io) "Data Inputs/Outputs", 8 I/O1 (io) "Data Inputs/Outputs", 9 I/O2 (io) "Data Inputs/Outputs", 10 I/O3 (io) "Data Inputs/Outputs", 11 VDD (power) "Power", 12 GND (power) "Ground", 13 I/O4 (io) "Data Inputs/Outputs", 14 I/O5 (io) "Data Inputs/Outputs", 15 I/O6 (io) "Data Inputs/Outputs", 16 I/O7 (io) "Data Inputs/Outputs", 17 ~{WE} (in) "Write Enable Input", 18 A10 (in) "Address Inputs", 19 A9 (in) "Address Inputs", 20 A8 (in) "Address Inputs", 21 A7 (in) "Address Inputs", 22 A16 (in) "Address Inputs", 23 A17 (in) "Address Inputs", 24 A6 (in) "Address Inputs", 25 A5 (in) "Address Inputs", 26 A4 (in) "Address Inputs", 27 A3 (in) "Address Inputs", 28 NC "No Connection", 29 I/O8 (io) "Data Inputs/Outputs", 30 I/O9 (io) "Data Inputs/Outputs", 31 I/O10 (io) "Data Inputs/Outputs", 32 I/O11 (io) "Data Inputs/Outputs", 33 VDD (power) "Power", 34 GND (power) "Ground", 35 I/O12 (io) "Data Inputs/Outputs", 36 I/O13 (io) "Data Inputs/Outputs", 37 I/O14 (io) "Data Inputs/Outputs", 38 I/O15 (io) "Data Inputs/Outputs", 39 ~{LB} (in) "Lower-byte Control (I/O0-I/O7)", 40 ~{UB} (in) "Upper-byte Control (I/O8-I/O15)", 41 ~{OE} (in) "Output Enable Input", 42 A2 (in) "Address Inputs", 43 A1 (in) "Address Inputs", 44 A0 (in) "Address Inputs"

## IS61C25616AL-10TL
designator U?
4 M High Speed CMOS SRAM, 256 K x 16, 0 to 70 degC, 44-Pin SOP (TSOP-2-44), Pb-Free; Manufacturer: Integrated Silicon Solution Inc (ISSI); PartNumber: IS61C25616AL-10TL; Density: 4M; Packing: Tray / Tube; Speed (ns): 10; DatasheetVersion: Rev. C; PackageVersion: Rev. F, 06/2008; PackageReference: TSOP-2-44; PackageDescription: 44-Pin 400 mil TSOP-2, Body 18.41 x 10.16 mm, Pitch 0.8 mm; Organization: 256K x 16; RoHS: Pb-Free; Mounting Technology: Surface Mount; ComponentLink1Description: Manufacturer URL; ComponentLink1URL: http://www.issi.com/US/index.shtml; ComponentLink2Description: Datasheet; ComponentLink2URL: http://www.issi.com/WW/pdf/61-64C25616AL-AS.pdf; ComponentLink3Description: Package Specification; ComponentLink3URL: http://www.issi.com/WW/pdf/61-64WV6416EEBLL.pdf
footprint ISSI-TSOP-2-44_N (SOP, 44-Leads, Body 18.5x10.3mm, Pitch 0.8mm, IPC Medium Density)
pins: 1 A15 (in) "Address Inputs", 2 A14 (in) "Address Inputs", 3 A13 (in) "Address Inputs", 4 A12 (in) "Address Inputs", 5 A11 (in) "Address Inputs", 6 ~{CE} (in) "Chip Enable Input", 7 I/O0 (io) "Data Inputs/Outputs", 8 I/O1 (io) "Data Inputs/Outputs", 9 I/O2 (io) "Data Inputs/Outputs", 10 I/O3 (io) "Data Inputs/Outputs", 11 VDD (power) "Power", 12 GND (power) "Ground", 13 I/O4 (io) "Data Inputs/Outputs", 14 I/O5 (io) "Data Inputs/Outputs", 15 I/O6 (io) "Data Inputs/Outputs", 16 I/O7 (io) "Data Inputs/Outputs", 17 ~{WE} (in) "Write Enable Input", 18 A10 (in) "Address Inputs", 19 A9 (in) "Address Inputs", 20 A8 (in) "Address Inputs", 21 A7 (in) "Address Inputs", 22 A16 (in) "Address Inputs", 23 A17 (in) "Address Inputs", 24 A6 (in) "Address Inputs", 25 A5 (in) "Address Inputs", 26 A4 (in) "Address Inputs", 27 A3 (in) "Address Inputs", 28 NC "No Connection", 29 I/O8 (io) "Data Inputs/Outputs", 30 I/O9 (io) "Data Inputs/Outputs", 31 I/O10 (io) "Data Inputs/Outputs", 32 I/O11 (io) "Data Inputs/Outputs", 33 VDD (power) "Power", 34 GND (power) "Ground", 35 I/O12 (io) "Data Inputs/Outputs", 36 I/O13 (io) "Data Inputs/Outputs", 37 I/O14 (io) "Data Inputs/Outputs", 38 I/O15 (io) "Data Inputs/Outputs", 39 ~{LB} (in) "Lower-byte Control (I/O0-I/O7)", 40 ~{UB} (in) "Upper-byte Control (I/O8-I/O15)", 41 ~{OE} (in) "Output Enable Input", 42 A2 (in) "Address Inputs", 43 A1 (in) "Address Inputs", 44 A0 (in) "Address Inputs"

## IS61C25616AL-10TL-TR
designator U?
4 M High Speed CMOS SRAM, 256 K x 16, 0 to 70 degC, 44-Pin SOP (TSOP-2-44), Pb-Free; Manufacturer: Integrated Silicon Solution Inc (ISSI); PartNumber: IS61C25616AL-10TL-TR; Density: 4M; Packing: Tape & Reel; Speed (ns): 10; DatasheetVersion: Rev. C; PackageVersion: Rev. F, 06/2008; PackageReference: TSOP-2-44; PackageDescription: 44-Pin 400 mil TSOP-2, Body 18.41 x 10.16 mm, Pitch 0.8 mm; Organization: 256K x 16; RoHS: Pb-Free; Mounting Technology: Surface Mount; ComponentLink1Description: Manufacturer URL; ComponentLink1URL: http://www.issi.com/US/index.shtml; ComponentLink2Description: Datasheet; ComponentLink2URL: http://www.issi.com/WW/pdf/61-64C25616AL-AS.pdf; ComponentLink3Description: Package Specification; ComponentLink3URL: http://www.issi.com/WW/pdf/61-64WV6416EEBLL.pdf
footprint ISSI-TSOP-2-44_N (SOP, 44-Leads, Body 18.5x10.3mm, Pitch 0.8mm, IPC Medium Density)
pins: 1 A15 (in) "Address Inputs", 2 A14 (in) "Address Inputs", 3 A13 (in) "Address Inputs", 4 A12 (in) "Address Inputs", 5 A11 (in) "Address Inputs", 6 ~{CE} (in) "Chip Enable Input", 7 I/O0 (io) "Data Inputs/Outputs", 8 I/O1 (io) "Data Inputs/Outputs", 9 I/O2 (io) "Data Inputs/Outputs", 10 I/O3 (io) "Data Inputs/Outputs", 11 VDD (power) "Power", 12 GND (power) "Ground", 13 I/O4 (io) "Data Inputs/Outputs", 14 I/O5 (io) "Data Inputs/Outputs", 15 I/O6 (io) "Data Inputs/Outputs", 16 I/O7 (io) "Data Inputs/Outputs", 17 ~{WE} (in) "Write Enable Input", 18 A10 (in) "Address Inputs", 19 A9 (in) "Address Inputs", 20 A8 (in) "Address Inputs", 21 A7 (in) "Address Inputs", 22 A16 (in) "Address Inputs", 23 A17 (in) "Address Inputs", 24 A6 (in) "Address Inputs", 25 A5 (in) "Address Inputs", 26 A4 (in) "Address Inputs", 27 A3 (in) "Address Inputs", 28 NC "No Connection", 29 I/O8 (io) "Data Inputs/Outputs", 30 I/O9 (io) "Data Inputs/Outputs", 31 I/O10 (io) "Data Inputs/Outputs", 32 I/O11 (io) "Data Inputs/Outputs", 33 VDD (power) "Power", 34 GND (power) "Ground", 35 I/O12 (io) "Data Inputs/Outputs", 36 I/O13 (io) "Data Inputs/Outputs", 37 I/O14 (io) "Data Inputs/Outputs", 38 I/O15 (io) "Data Inputs/Outputs", 39 ~{LB} (in) "Lower-byte Control (I/O0-I/O7)", 40 ~{UB} (in) "Upper-byte Control (I/O8-I/O15)", 41 ~{OE} (in) "Output Enable Input", 42 A2 (in) "Address Inputs", 43 A1 (in) "Address Inputs", 44 A0 (in) "Address Inputs"

## IS61C25616AL-10TLI
designator U?
4 M High Speed CMOS SRAM, 256 K x 16, -40 to 85 degC, 44-Pin SOP (TSOP-2-44), Pb-Free; Manufacturer: Integrated Silicon Solution Inc (ISSI); PartNumber: IS61C25616AL-10TLI; Density: 4M; Packing: Tray / Tube; Speed (ns): 10; DatasheetVersion: Rev. C; PackageVersion: Rev. F, 06/2008; PackageReference: TSOP-2-44; PackageDescription: 44-Pin 400 mil TSOP-2, Body 18.41 x 10.16 mm, Pitch 0.8 mm; Supplier 1: Digi-Key; Supplier Part Number 1: IS61C25616AL-10TLI-ND; Supplier 2: Mouser; Supplier Part Number 2: 870-61C25616AL-10TLI; Organization: 256K x 16; RoHS: Pb-Free; Mounting Technology: Surface Mount; ComponentLink1Description: Manufacturer URL; ComponentLink1URL: http://www.issi.com/US/index.shtml; ComponentLink2Description: Datasheet; ComponentLink2URL: http://www.issi.com/WW/pdf/61-64C25616AL-AS.pdf; ComponentLink3Description: Package Specification; ComponentLink3URL: http://www.issi.com/WW/pdf/61-64WV6416EEBLL.pdf
footprint ISSI-TSOP-2-44_N (SOP, 44-Leads, Body 18.5x10.3mm, Pitch 0.8mm, IPC Medium Density)
pins: 1 A15 (in) "Address Inputs", 2 A14 (in) "Address Inputs", 3 A13 (in) "Address Inputs", 4 A12 (in) "Address Inputs", 5 A11 (in) "Address Inputs", 6 ~{CE} (in) "Chip Enable Input", 7 I/O0 (io) "Data Inputs/Outputs", 8 I/O1 (io) "Data Inputs/Outputs", 9 I/O2 (io) "Data Inputs/Outputs", 10 I/O3 (io) "Data Inputs/Outputs", 11 VDD (power) "Power", 12 GND (power) "Ground", 13 I/O4 (io) "Data Inputs/Outputs", 14 I/O5 (io) "Data Inputs/Outputs", 15 I/O6 (io) "Data Inputs/Outputs", 16 I/O7 (io) "Data Inputs/Outputs", 17 ~{WE} (in) "Write Enable Input", 18 A10 (in) "Address Inputs", 19 A9 (in) "Address Inputs", 20 A8 (in) "Address Inputs", 21 A7 (in) "Address Inputs", 22 A16 (in) "Address Inputs", 23 A17 (in) "Address Inputs", 24 A6 (in) "Address Inputs", 25 A5 (in) "Address Inputs", 26 A4 (in) "Address Inputs", 27 A3 (in) "Address Inputs", 28 NC "No Connection", 29 I/O8 (io) "Data Inputs/Outputs", 30 I/O9 (io) "Data Inputs/Outputs", 31 I/O10 (io) "Data Inputs/Outputs", 32 I/O11 (io) "Data Inputs/Outputs", 33 VDD (power) "Power", 34 GND (power) "Ground", 35 I/O12 (io) "Data Inputs/Outputs", 36 I/O13 (io) "Data Inputs/Outputs", 37 I/O14 (io) "Data Inputs/Outputs", 38 I/O15 (io) "Data Inputs/Outputs", 39 ~{LB} (in) "Lower-byte Control (I/O0-I/O7)", 40 ~{UB} (in) "Upper-byte Control (I/O8-I/O15)", 41 ~{OE} (in) "Output Enable Input", 42 A2 (in) "Address Inputs", 43 A1 (in) "Address Inputs", 44 A0 (in) "Address Inputs"

## IS61C25616AL-10TLI-TR
designator U?
4 M High Speed CMOS SRAM, 256 K x 16, -40 to 85 degC, 44-Pin SOP (TSOP-2-44), Pb-Free; Manufacturer: Integrated Silicon Solution Inc (ISSI); PartNumber: IS61C25616AL-10TLI-TR; Density: 4M; Packing: Tape & Reel; Speed (ns): 10; DatasheetVersion: Rev. C; PackageVersion: Rev. F, 06/2008; PackageReference: TSOP-2-44; PackageDescription: 44-Pin 400 mil TSOP-2, Body 18.41 x 10.16 mm, Pitch 0.8 mm; Supplier 1: Digi-Key; Supplier Part Number 1: IS61C25616AL-10TLI-TR-ND; Supplier 2: Mouser; Supplier Part Number 2: 870-61C25616AL10TLIT; Organization: 256K x 16; RoHS: Pb-Free; Mounting Technology: Surface Mount; ComponentLink1Description: Manufacturer URL; ComponentLink1URL: http://www.issi.com/US/index.shtml; ComponentLink2Description: Datasheet; ComponentLink2URL: http://www.issi.com/WW/pdf/61-64C25616AL-AS.pdf; ComponentLink3Description: Package Specification; ComponentLink3URL: http://www.issi.com/WW/pdf/61-64WV6416EEBLL.pdf
footprint ISSI-TSOP-2-44_N (SOP, 44-Leads, Body 18.5x10.3mm, Pitch 0.8mm, IPC Medium Density)
pins: 1 A15 (in) "Address Inputs", 2 A14 (in) "Address Inputs", 3 A13 (in) "Address Inputs", 4 A12 (in) "Address Inputs", 5 A11 (in) "Address Inputs", 6 ~{CE} (in) "Chip Enable Input", 7 I/O0 (io) "Data Inputs/Outputs", 8 I/O1 (io) "Data Inputs/Outputs", 9 I/O2 (io) "Data Inputs/Outputs", 10 I/O3 (io) "Data Inputs/Outputs", 11 VDD (power) "Power", 12 GND (power) "Ground", 13 I/O4 (io) "Data Inputs/Outputs", 14 I/O5 (io) "Data Inputs/Outputs", 15 I/O6 (io) "Data Inputs/Outputs", 16 I/O7 (io) "Data Inputs/Outputs", 17 ~{WE} (in) "Write Enable Input", 18 A10 (in) "Address Inputs", 19 A9 (in) "Address Inputs", 20 A8 (in) "Address Inputs", 21 A7 (in) "Address Inputs", 22 A16 (in) "Address Inputs", 23 A17 (in) "Address Inputs", 24 A6 (in) "Address Inputs", 25 A5 (in) "Address Inputs", 26 A4 (in) "Address Inputs", 27 A3 (in) "Address Inputs", 28 NC "No Connection", 29 I/O8 (io) "Data Inputs/Outputs", 30 I/O9 (io) "Data Inputs/Outputs", 31 I/O10 (io) "Data Inputs/Outputs", 32 I/O11 (io) "Data Inputs/Outputs", 33 VDD (power) "Power", 34 GND (power) "Ground", 35 I/O12 (io) "Data Inputs/Outputs", 36 I/O13 (io) "Data Inputs/Outputs", 37 I/O14 (io) "Data Inputs/Outputs", 38 I/O15 (io) "Data Inputs/Outputs", 39 ~{LB} (in) "Lower-byte Control (I/O0-I/O7)", 40 ~{UB} (in) "Upper-byte Control (I/O8-I/O15)", 41 ~{OE} (in) "Output Enable Input", 42 A2 (in) "Address Inputs", 43 A1 (in) "Address Inputs", 44 A0 (in) "Address Inputs"

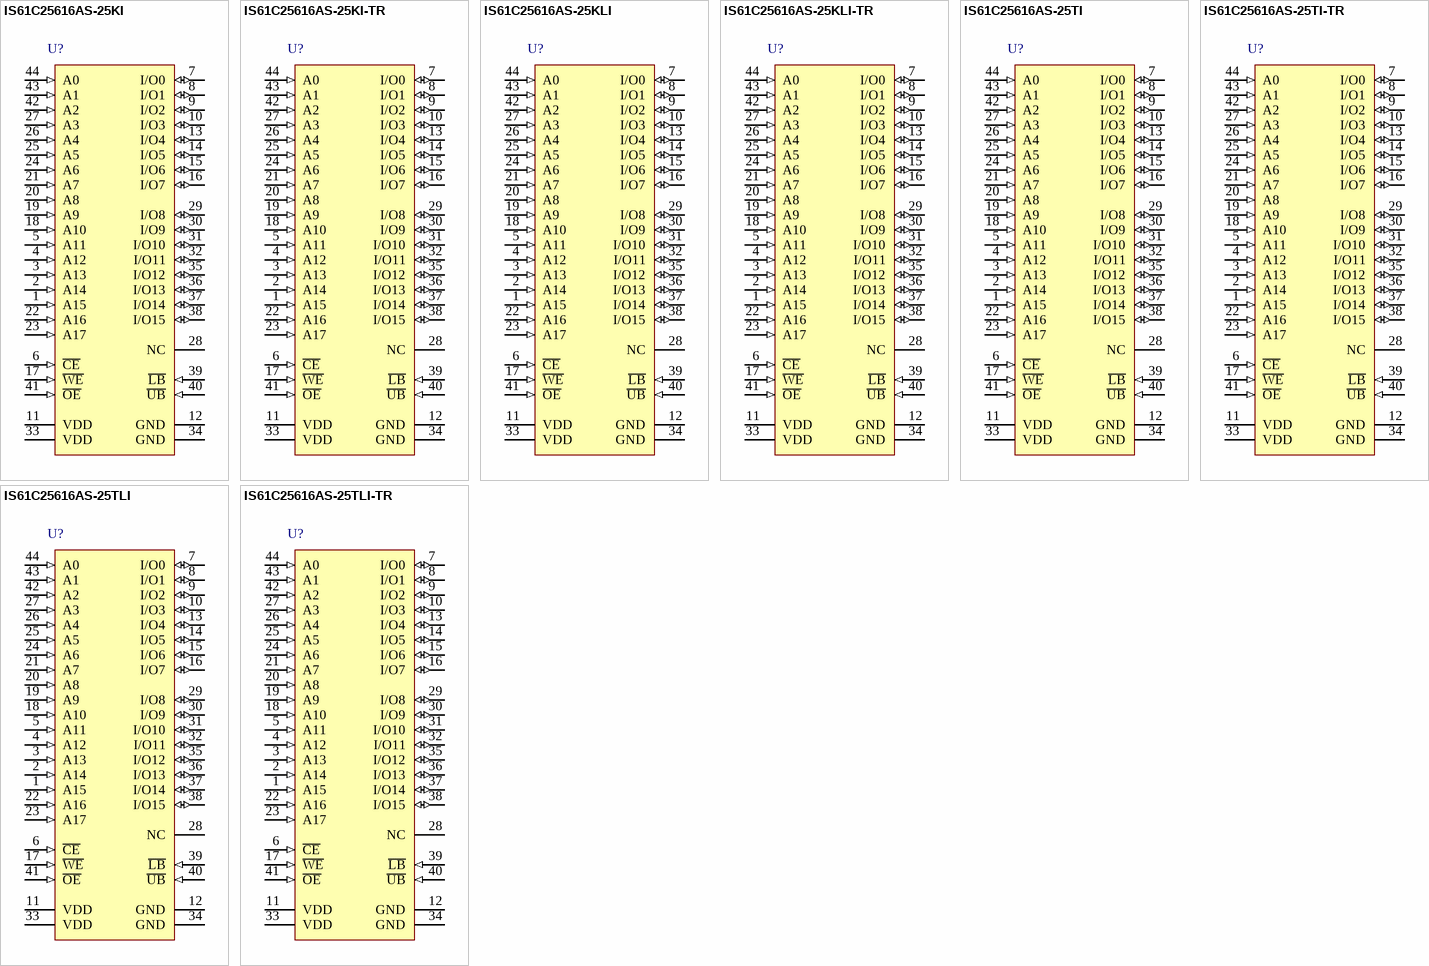
[diagram p5: symbols IS61C25616AS-25KI to IS61C25616AS-25TLI-TR]

## IS61C25616AS-25KI
designator U?
4 M High Speed CMOS SRAM, 256 K x 16, -40 to 85 degC, 44-Pin SOJ (SOJ-44); Manufacturer: Integrated Silicon Solution Inc (ISSI); PartNumber: IS61C25616AS-25KI; Density: 4M; Packing: Tray / Tube; Speed (ns): 25; DatasheetVersion: Rev. C; PackageVersion: Rev. E, 12/2007; PackageReference: SOJ-44; PackageDescription: 44-Pin 400 mil SOJ, Body 28.58 x 10.16 mm, Pitch 1.27 mm; Organization: 256K x 16; Mounting Technology: Surface Mount; Code_JEDEC: MS-027; ComponentLink1Description: Manufacturer URL; ComponentLink1URL: http://www.issi.com/US/index.shtml; ComponentLink2Description: Datasheet; ComponentLink2URL: http://www.issi.com/WW/pdf/61-64C25616AL-AS.pdf; ComponentLink3Description: Package Specification; ComponentLink3URL: http://www.issi.com/WW/pdf/61-64WV25616.pdf
footprint ISSI-SOJ-44_N (SOJ, 44-Leads, Body 28.7x10.29mm, Pitch 1.27mm, IPC Medium Density)
pins: 1 A15 (in) "Address Input", 2 A14 (in) "Address Input", 3 A13 (in) "Address Input", 4 A12 (in) "Address Input", 5 A11 (in) "Address Input", 6 ~{CE} (in) "Chip Enable Input", 7 I/O0 (io) "Data Input/Output", 8 I/O1 (io) "Data Input/Output", 9 I/O2 (io) "Data Input/Output", 10 I/O3 (io) "Data Input/Output", 11 VDD (power) "Power", 12 GND (power) "Ground", 13 I/O4 (io) "Data Input/Output", 14 I/O5 (io) "Data Input/Output", 15 I/O6 (io) "Data Input/Output", 16 I/O7 (io) "Data Input/Output", 17 ~{WE} (in) "Write Enable Input", 18 A10 (in) "Address Input", 19 A9 (in) "Address Input", 20 A8 (in) "Address Input", 21 A7 (in) "Address Input", 22 A16 (in) "Address Input", 23 A17 (in) "Address Input", 24 A6 (in) "Address Input", 25 A5 (in) "Address Input", 26 A4 (in) "Address Input", 27 A3 (in) "Address Input", 28 NC "No Connection", 29 I/O8 (io) "Data Input/Output", 30 I/O9 (io) "Data Input/Output", 31 I/O10 (io) "Data Input/Output", 32 I/O11 (io) "Data Input/Output", 33 VDD (power) "Power", 34 GND (power) "Ground", 35 I/O12 (io) "Data Input/Output", 36 I/O13 (io) "Data Input/Output", 37 I/O14 (io) "Data Input/Output", 38 I/O15 (io) "Data Input/Output", 39 ~{LB} (in) "Lower-byte Control (I/O0-I/O7)", 40 ~{UB} (in) "Upper-byte Control (I/O8-I/O15)", 41 ~{OE} (in) "Output Enable Input", 42 A2 (in) "Address Input", 43 A1 (in) "Address Input", 44 A0 (in) "Address Input"

## IS61C25616AS-25KI-TR
designator U?
4 M High Speed CMOS SRAM, 256 K x 16, -40 to 85 degC, 44-Pin SOJ (SOJ-44); Manufacturer: Integrated Silicon Solution Inc (ISSI); PartNumber: IS61C25616AS-25KI-TR; Density: 4M; Packing: Tape & Reel; Speed (ns): 25; DatasheetVersion: Rev. C; PackageVersion: Rev. E, 12/2007; PackageReference: SOJ-44; PackageDescription: 44-Pin 400 mil SOJ, Body 28.58 x 10.16 mm, Pitch 1.27 mm; Organization: 256K x 16; Mounting Technology: Surface Mount; Code_JEDEC: MS-027; ComponentLink1Description: Manufacturer URL; ComponentLink1URL: http://www.issi.com/US/index.shtml; ComponentLink2Description: Datasheet; ComponentLink2URL: http://www.issi.com/WW/pdf/61-64C25616AL-AS.pdf; ComponentLink3Description: Package Specification; ComponentLink3URL: http://www.issi.com/WW/pdf/61-64WV25616.pdf
footprint ISSI-SOJ-44_N (SOJ, 44-Leads, Body 28.7x10.29mm, Pitch 1.27mm, IPC Medium Density)
pins: 1 A15 (in) "Address Input", 2 A14 (in) "Address Input", 3 A13 (in) "Address Input", 4 A12 (in) "Address Input", 5 A11 (in) "Address Input", 6 ~{CE} (in) "Chip Enable Input", 7 I/O0 (io) "Data Input/Output", 8 I/O1 (io) "Data Input/Output", 9 I/O2 (io) "Data Input/Output", 10 I/O3 (io) "Data Input/Output", 11 VDD (power) "Power", 12 GND (power) "Ground", 13 I/O4 (io) "Data Input/Output", 14 I/O5 (io) "Data Input/Output", 15 I/O6 (io) "Data Input/Output", 16 I/O7 (io) "Data Input/Output", 17 ~{WE} (in) "Write Enable Input", 18 A10 (in) "Address Input", 19 A9 (in) "Address Input", 20 A8 (in) "Address Input", 21 A7 (in) "Address Input", 22 A16 (in) "Address Input", 23 A17 (in) "Address Input", 24 A6 (in) "Address Input", 25 A5 (in) "Address Input", 26 A4 (in) "Address Input", 27 A3 (in) "Address Input", 28 NC "No Connection", 29 I/O8 (io) "Data Input/Output", 30 I/O9 (io) "Data Input/Output", 31 I/O10 (io) "Data Input/Output", 32 I/O11 (io) "Data Input/Output", 33 VDD (power) "Power", 34 GND (power) "Ground", 35 I/O12 (io) "Data Input/Output", 36 I/O13 (io) "Data Input/Output", 37 I/O14 (io) "Data Input/Output", 38 I/O15 (io) "Data Input/Output", 39 ~{LB} (in) "Lower-byte Control (I/O0-I/O7)", 40 ~{UB} (in) "Upper-byte Control (I/O8-I/O15)", 41 ~{OE} (in) "Output Enable Input", 42 A2 (in) "Address Input", 43 A1 (in) "Address Input", 44 A0 (in) "Address Input"

## IS61C25616AS-25KLI
designator U?
4 M High Speed CMOS SRAM, 256 K x 16, -40 to 85 degC, 44-Pin SOJ (SOJ-44), Pb-Free; Manufacturer: Integrated Silicon Solution Inc (ISSI); PartNumber: IS61C25616AS-25KLI; Density: 4M; Packing: Tray / Tube; Speed (ns): 25; DatasheetVersion: Rev. C; PackageVersion: Rev. E, 12/2007; PackageReference: SOJ-44; PackageDescription: 44-Pin 400 mil SOJ, Body 28.58 x 10.16 mm, Pitch 1.27 mm; Organization: 256K x 16; RoHS: Pb-Free; Mounting Technology: Surface Mount; Code_JEDEC: MS-027; ComponentLink1Description: Manufacturer URL; ComponentLink1URL: http://www.issi.com/US/index.shtml; ComponentLink2Description: Datasheet; ComponentLink2URL: http://www.issi.com/WW/pdf/61-64C25616AL-AS.pdf; ComponentLink3Description: Package Specification; ComponentLink3URL: http://www.issi.com/WW/pdf/61-64WV25616.pdf
footprint ISSI-SOJ-44_N (SOJ, 44-Leads, Body 28.7x10.29mm, Pitch 1.27mm, IPC Medium Density)
pins: 1 A15 (in) "Address Input", 2 A14 (in) "Address Input", 3 A13 (in) "Address Input", 4 A12 (in) "Address Input", 5 A11 (in) "Address Input", 6 ~{CE} (in) "Chip Enable Input", 7 I/O0 (io) "Data Input/Output", 8 I/O1 (io) "Data Input/Output", 9 I/O2 (io) "Data Input/Output", 10 I/O3 (io) "Data Input/Output", 11 VDD (power) "Power", 12 GND (power) "Ground", 13 I/O4 (io) "Data Input/Output", 14 I/O5 (io) "Data Input/Output", 15 I/O6 (io) "Data Input/Output", 16 I/O7 (io) "Data Input/Output", 17 ~{WE} (in) "Write Enable Input", 18 A10 (in) "Address Input", 19 A9 (in) "Address Input", 20 A8 (in) "Address Input", 21 A7 (in) "Address Input", 22 A16 (in) "Address Input", 23 A17 (in) "Address Input", 24 A6 (in) "Address Input", 25 A5 (in) "Address Input", 26 A4 (in) "Address Input", 27 A3 (in) "Address Input", 28 NC "No Connection", 29 I/O8 (io) "Data Input/Output", 30 I/O9 (io) "Data Input/Output", 31 I/O10 (io) "Data Input/Output", 32 I/O11 (io) "Data Input/Output", 33 VDD (power) "Power", 34 GND (power) "Ground", 35 I/O12 (io) "Data Input/Output", 36 I/O13 (io) "Data Input/Output", 37 I/O14 (io) "Data Input/Output", 38 I/O15 (io) "Data Input/Output", 39 ~{LB} (in) "Lower-byte Control (I/O0-I/O7)", 40 ~{UB} (in) "Upper-byte Control (I/O8-I/O15)", 41 ~{OE} (in) "Output Enable Input", 42 A2 (in) "Address Input", 43 A1 (in) "Address Input", 44 A0 (in) "Address Input"